# Altium schematic symbol library Richtek_RT9818C-29GV.SchLib: 1 symbol
Pins are listed as number, name and electrical type; pins without a type are passive.

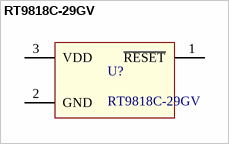
[diagram p0: symbol RT9818C-29GV]

## RT9818C-29GV
designator U?
IC VOLT DETECTOR 2.9V SOT23-3; Supplier 1: Digi-Key; Supplier Part Number 1: 1028-1020-1-ND
footprint SOT95P279X129-3N (SOT23, 3-Leads, Body 2.90x2.79mm, Pitch 0.95mm, IPC Medium Density)
pins: 1 ~{RESET}, 2 GND, 3 VDD